# Altium integrated library TS06-667-25-BK-100-G-SMT-TR.IntLib: 1 symbol
Pins are listed as number, name and electrical type; pins without a type are passive.

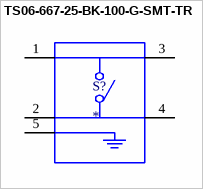
[diagram p0: symbol TS06-667-25-BK-100-G-SMT-TR]

## TS06-667-25-BK-100-G-SMT-TR
designator S?
MP: TS06-667-25-BK-100-G-SMT-TR; MF: {'manufacturer': u'CUI'}; Value: *; Package: None; Price: None; Availability: Unavailable
footprint SW_TS06-667-25-BK-100-G-SMT-TR
pins: 1, 2, 3, 4, 5